# EAGLE library part MC34063 (library den)
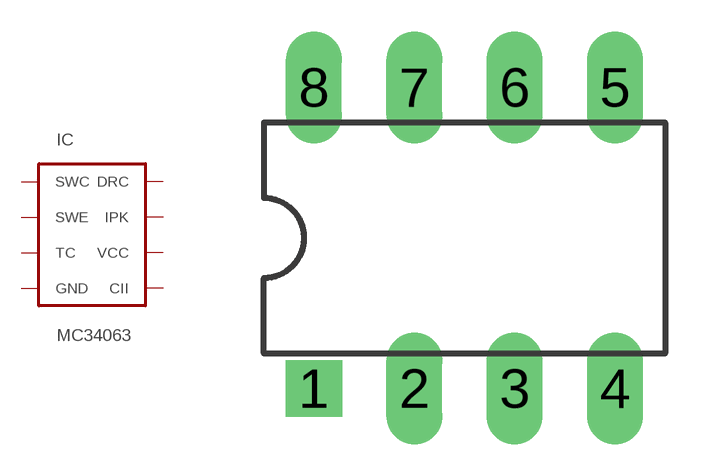
[diagram p0: symbol with the pads of DIL08; footprint DIL08]

Designator prefix IC

## MC34063D  [DIL08]
1  SWC  pas
2  SWE  pas
3  TC  pas
4  GND  pas
5  CII  pas
6  VCC  pas
7  IPK  pas
8  DRC  pas

## Footprint DIL08 (pad centres in mm)
Dual In Line Package
drill 0.8 pad 1.422 square: 1 -3.81,-3.81
drill 0.8 pad 1.422 long: 2 -1.27,-3.81; 3 1.27,-3.81; 4 3.81,-3.81; 5 3.81,3.81; 6 1.27,3.81; 7 -1.27,3.81; 8 -3.81,3.81